# Altium schematic symbol library LM337KTTRG3.SchLib: 2 symbols
Pins are listed as number, name and electrical type; pins without a type are passive.

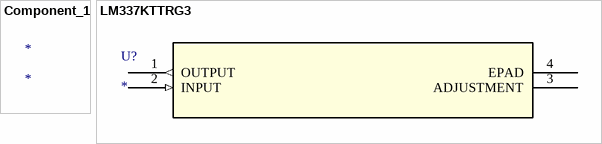
[diagram p0: symbols Component_1 to LM337KTTRG3]

## Component_1
designator *

## LM337KTTRG3
designator U?
No Description Available; Mfr_Name: Texas Instruments; Digi-Key_Part_Number_4: LM337KTTRG3-ND; Digi-Key_Part_Number_3: 296-50354-6-ND; Digi-Key_Part_Number_1: 296-50354-1-ND; Digi-Key_Part_Number_2: 296-50354-2-ND; RefDes: RefDes; Type: Type
footprint KTT3_6P22X6P6
pins: 1 OUTPUT (out), 2 INPUT (in), 3 ADJUSTMENT, 4 EPAD